# Altium schematic symbol library gennum.SCHLIB: 5 symbols
Pins are listed as number, name and electrical type; pins without a type are passive.

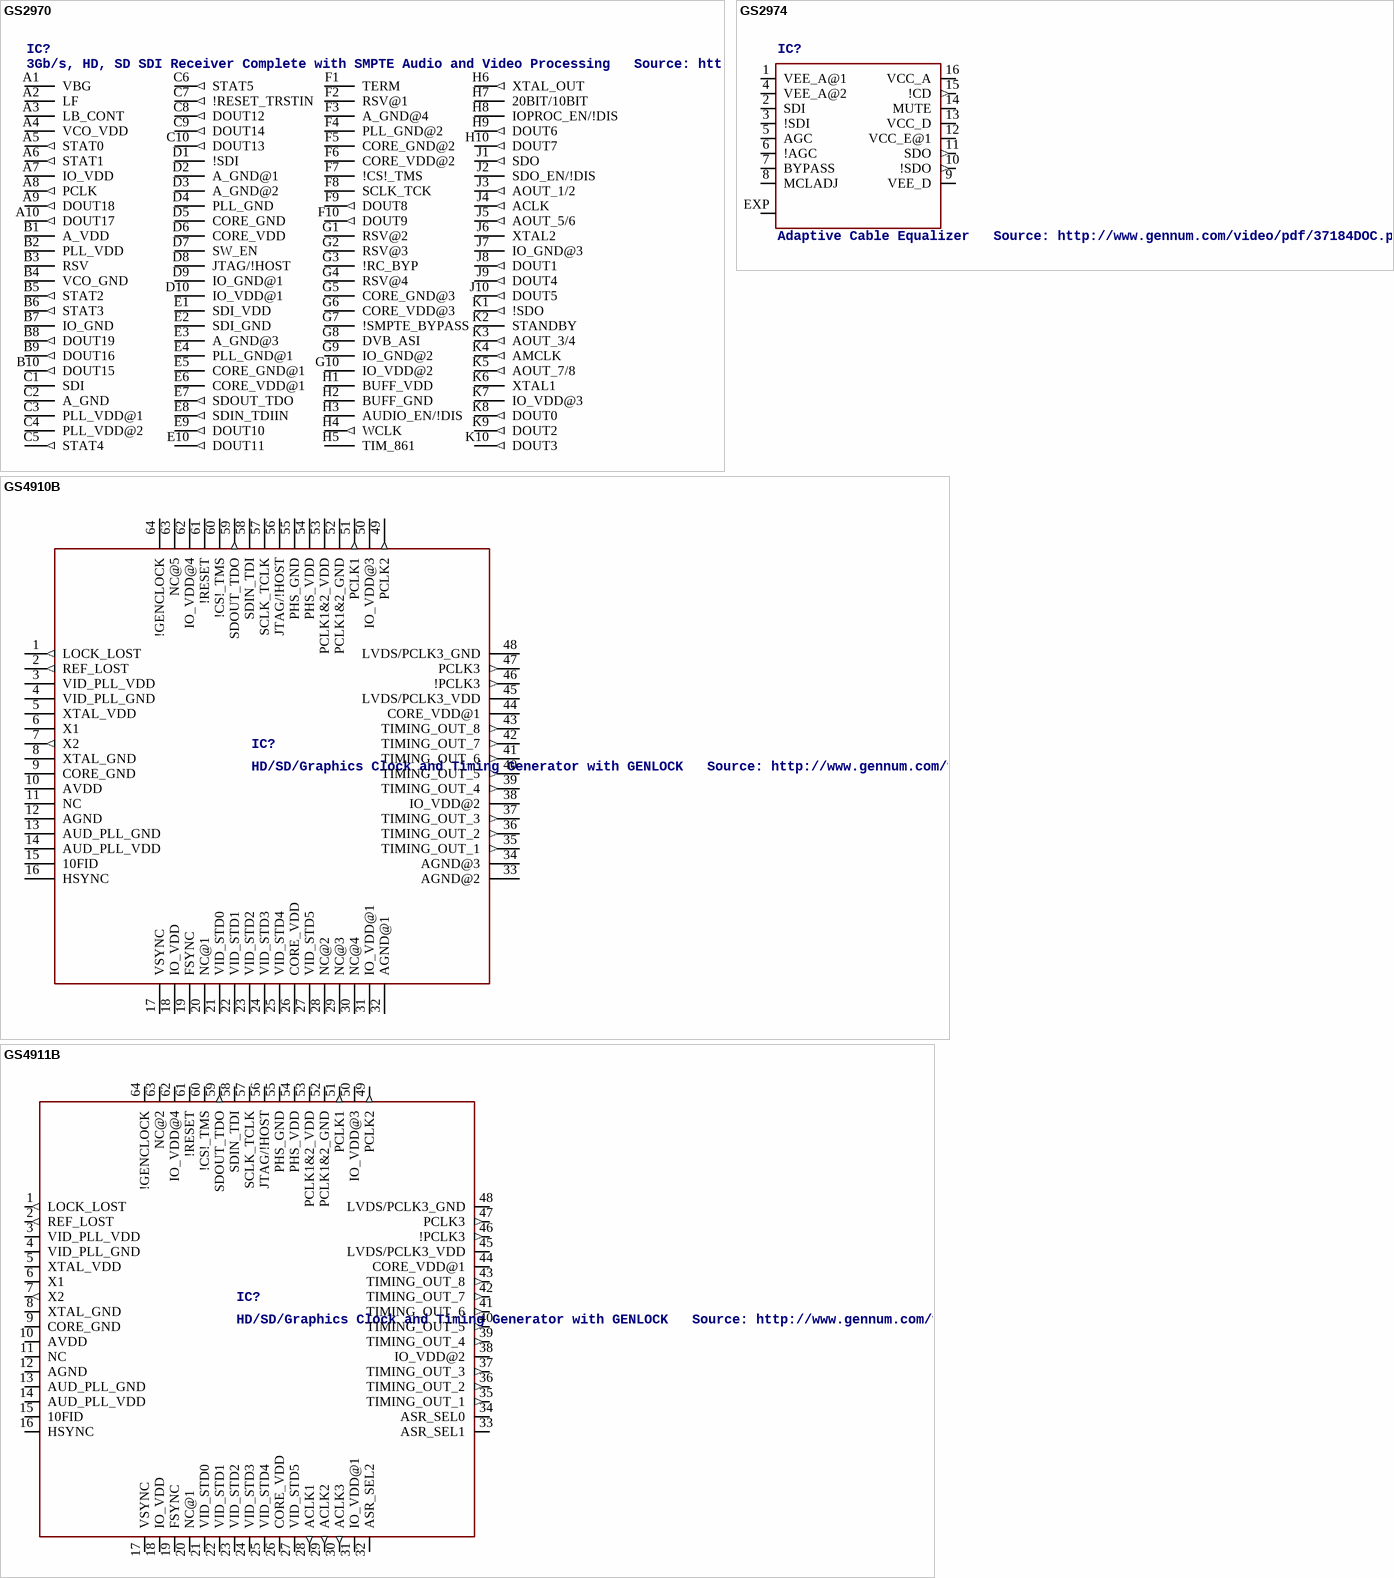
[diagram p0: symbols GS2970 to GS4911B]

## GS2970
designator IC?, comment 3Gb/s, HD, SD SDI Receiver Complete with SMPTE Audio and Video Processing   Source: http://www.gennum.com/video/pdf/47478DOC.pdf
MPN: GS2970IBE3; OC_FARNELL: 1694478; OC_NEWARK: 56P5062
footprint LBGA100
pins: A1 VBG, A2 LF, A3 LB_CONT, A4 VCO_VDD (power), A5 STAT0 (out), A6 STAT1 (out), A7 IO_VDD (power), A8 PCLK (out), A9 DOUT18 (out), A10 DOUT17 (out), B1 A_VDD (power), B2 PLL_VDD (power), B3 RSV, B4 VCO_GND (power), B5 STAT2 (out), B6 STAT3 (out), B7 IO_GND (power), B8 DOUT19 (out), B9 DOUT16 (out), B10 DOUT15 (out), C1 SDI, C2 A_GND (power), C3 PLL_VDD@1 (power), C4 PLL_VDD@2 (power), C5 STAT4 (out), C6 STAT5 (out), C7 !RESET_TRSTIN (out), C8 DOUT12 (out), C9 DOUT14 (out), C10 DOUT13 (out), D1 !SDI, D2 A_GND@1 (power), D3 A_GND@2 (power), D4 PLL_GND (power), D5 CORE_GND (power), D6 CORE_VDD (power), D7 SW_EN, D8 JTAG/!HOST, D9 IO_GND@1 (power), D10 IO_VDD@1 (power), E1 SDI_VDD (power), E2 SDI_GND (power), E3 A_GND@3 (power), E4 PLL_GND@1 (power), E5 CORE_GND@1 (power), E6 CORE_VDD@1 (power), E7 SDOUT_TDO (out), E8 SDIN_TDIIN (out), E9 DOUT10 (out), E10 DOUT11 (out), F1 TERM, F2 RSV@1, F3 A_GND@4 (power), F4 PLL_GND@2 (power), F5 CORE_GND@2 (power), F6 CORE_VDD@2 (power), F7 !CS!_TMS, F8 SCLK_TCK, F9 DOUT8 (out), F10 DOUT9 (out), G1 RSV@2, G2 RSV@3, G3 !RC_BYP, G4 RSV@4, G5 CORE_GND@3 (power), G6 CORE_VDD@3 (power), G7 !SMPTE_BYPASS, G8 DVB_ASI, G9 IO_GND@2 (power), G10 IO_VDD@2 (power), H1 BUFF_VDD (power), H2 BUFF_GND (power), H3 AUDIO_EN/!DIS, H4 WCLK (out), H5 TIM_861, H6 XTAL_OUT (out), H7 20BIT/10BIT, H8 IOPROC_EN/!DIS, H9 DOUT6 (out), H10 DOUT7 (out), J1 SDO (out), J2 SDO_EN/!DIS, J3 AOUT_1/2 (out), J4 ACLK (out), J5 AOUT_5/6 (out), J6 XTAL2, J7 IO_GND@3 (power), J8 DOUT1 (out), J9 DOUT4 (out), J10 DOUT5 (out), K1 !SDO (out), K2 STANDBY, K3 AOUT_3/4 (out), K4 AMCLK (out), K5 AOUT_7/8 (out), K6 XTAL1, K7 IO_VDD@3 (power), K8 DOUT0 (out), K9 DOUT2 (out), K10 DOUT3 (out)

## GS2974
designator IC?, comment Adaptive Cable Equalizer   Source: http://www.gennum.com/video/pdf/37184DOC.pdf
MPN: GS2974ACNE3; OC_FARNELL: 1603763; OC_NEWARK: 12N2242
footprint QFN16-4X4
pins: 1 VEE_A@1 (power), 2 SDI, 3 !SDI, 4 VEE_A@2 (power), 5 AGC, 6 !AGC, 7 BYPASS, 8 MCLADJ, 9 VEE_D (power), 10 !SDO (out), 11 SDO (out), 12 VCC_E@1 (power), 13 VCC_D (power), 14 MUTE, 15 !CD (out), 16 VCC_A (power), EXP (power)

## GS4910B
designator IC?, comment HD/SD/Graphics Clock and Timing Generator with GENLOCK   Source: http://www.gennum.com/video/pdf/36655DOC.pdf
OC_FARNELL: unknown; OC_NEWARK: unknown
footprint QFN64-9X9
pins: 1 LOCK_LOST (out), 2 REF_LOST (out), 3 VID_PLL_VDD (power), 4 VID_PLL_GND (power), 5 XTAL_VDD (power), 6 X1, 7 X2 (out), 8 XTAL_GND (power), 9 CORE_GND (power), 10 AVDD (power), 11 NC, 12 AGND (power), 13 AUD_PLL_GND (power), 14 AUD_PLL_VDD (power), 15 10FID, 16 HSYNC, 17 VSYNC, 18 IO_VDD (power), 19 FSYNC, 20 NC@1, 21 VID_STD0, 22 VID_STD1, 23 VID_STD2, 24 VID_STD3, 25 VID_STD4, 26 CORE_VDD (power), 27 VID_STD5, 28 NC@2, 29 NC@3, 30 NC@4, 31 IO_VDD@1 (power), 32 AGND@1 (power), 33 AGND@2 (power), 34 AGND@3 (power), 35 TIMING_OUT_1 (out), 36 TIMING_OUT_2 (out), 37 TIMING_OUT_3 (out), 38 IO_VDD@2 (power), 39 TIMING_OUT_4 (out), 40 TIMING_OUT_5 (out), 41 TIMING_OUT_6 (out), 42 TIMING_OUT_7 (out), 43 TIMING_OUT_8 (out), 44 CORE_VDD@1 (power), 45 LVDS/PCLK3_VDD (power), 46 !PCLK3 (out), 47 PCLK3 (out), 48 LVDS/PCLK3_GND (power), 49 PCLK2 (out), 50 IO_VDD@3 (power), 51 PCLK1 (out), 52 PCLK1&2_GND (power), 53 PCLK1&2_VDD (power), 54 PHS_VDD (power), 55 PHS_GND (power), 56 JTAG/!HOST, 57 SCLK_TCLK, 58 SDIN_TDI, 59 SDOUT_TDO (out), 60 !CS!_TMS, 61 !RESET, 62 IO_VDD@4 (power), 63 NC@5, 64 !GENCLOCK

## GS4911B
designator IC?, comment HD/SD/Graphics Clock and Timing Generator with GENLOCK   Source: http://www.gennum.com/video/pdf/36655DOC.pdf
MPN: GS4911BCNE3; OC_FARNELL: 1603771; OC_NEWARK: 12N2245
footprint QFN64-9X9
pins: 1 LOCK_LOST (out), 2 REF_LOST (out), 3 VID_PLL_VDD (power), 4 VID_PLL_GND (power), 5 XTAL_VDD (power), 6 X1, 7 X2 (out), 8 XTAL_GND (power), 9 CORE_GND (power), 10 AVDD (power), 11 NC, 12 AGND (power), 13 AUD_PLL_GND (power), 14 AUD_PLL_VDD (power), 15 10FID, 16 HSYNC, 17 VSYNC, 18 IO_VDD (power), 19 FSYNC, 20 NC@1, 21 VID_STD0, 22 VID_STD1, 23 VID_STD2, 24 VID_STD3, 25 VID_STD4, 26 CORE_VDD (power), 27 VID_STD5, 28 ACLK1 (out), 29 ACLK2 (out), 30 ACLK3 (out), 31 IO_VDD@1 (power), 32 ASR_SEL2, 33 ASR_SEL1, 34 ASR_SEL0, 35 TIMING_OUT_1 (out), 36 TIMING_OUT_2 (out), 37 TIMING_OUT_3 (out), 38 IO_VDD@2 (power), 39 TIMING_OUT_4 (out), 40 TIMING_OUT_5 (out), 41 TIMING_OUT_6 (out), 42 TIMING_OUT_7 (out), 43 TIMING_OUT_8 (out), 44 CORE_VDD@1 (power), 45 LVDS/PCLK3_VDD (power), 46 !PCLK3 (out), 47 PCLK3 (out), 48 LVDS/PCLK3_GND (power), 49 PCLK2 (out), 50 IO_VDD@3 (power), 51 PCLK1 (out), 52 PCLK1&2_GND (power), 53 PCLK1&2_VDD (power), 54 PHS_VDD (power), 55 PHS_GND (power), 56 JTAG/!HOST, 57 SCLK_TCLK, 58 SDIN_TDI, 59 SDOUT_TDO (out), 60 !CS!_TMS, 61 !RESET, 62 IO_VDD@4 (power), 63 NC@2, 64 !GENCLOCK

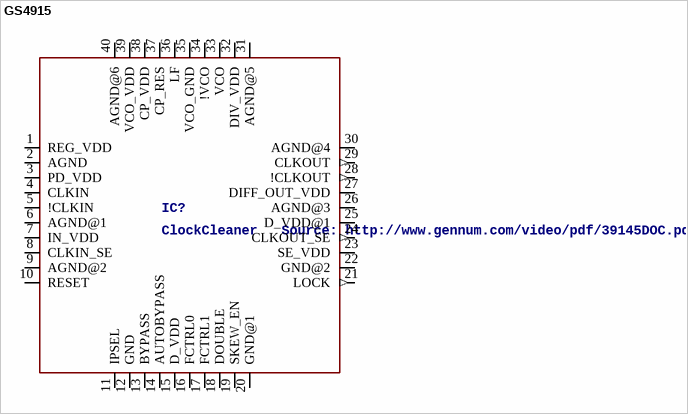
[diagram p1: symbol GS4915]

## GS4915
designator IC?, comment ClockCleaner   Source: http://www.gennum.com/video/pdf/39145DOC.pdf
MPN: GS4915INE3; OC_FARNELL: 1603770; OC_NEWARK: 12N2246
footprint QFN40-6X6
pins: 1 REG_VDD (power), 2 AGND (power), 3 PD_VDD (power), 4 CLKIN, 5 !CLKIN, 6 AGND@1 (power), 7 IN_VDD (power), 8 CLKIN_SE, 9 AGND@2 (power), 10 RESET, 11 IPSEL, 12 GND (power), 13 BYPASS, 14 AUTOBYPASS, 15 D_VDD (power), 16 FCTRL0, 17 FCTRL1, 18 DOUBLE, 19 SKEW_EN, 20 GND@1 (power), 21 LOCK (out), 22 GND@2 (power), 23 SE_VDD (power), 24 CLKOUT_SE (out), 25 D_VDD@1 (power), 26 AGND@3 (power), 27 DIFF_OUT_VDD (power), 28 !CLKOUT (out), 29 CLKOUT (out), 30 AGND@4 (power), 31 AGND@5 (power), 32 DIV_VDD (power), 33 VCO, 34 !VCO, 35 VCO_GND (power), 36 LF, 37 CP_RES, 38 CP_VDD (power), 39 VCO_VDD (power), 40 AGND@6 (power)